# Altium footprint library SJ3-35024K-SMT.PcbLib: 1 footprints
Each footprint in its own frame and in the unit in brackets; x right, y up, seen from the top. Pads: shape width x height; smd on the part's side, far side on the other; paste and mask are expansions set on the pad; w line width, h text height; cw(c..) or ccw(c..) is an arc to the next point about the centre after c.
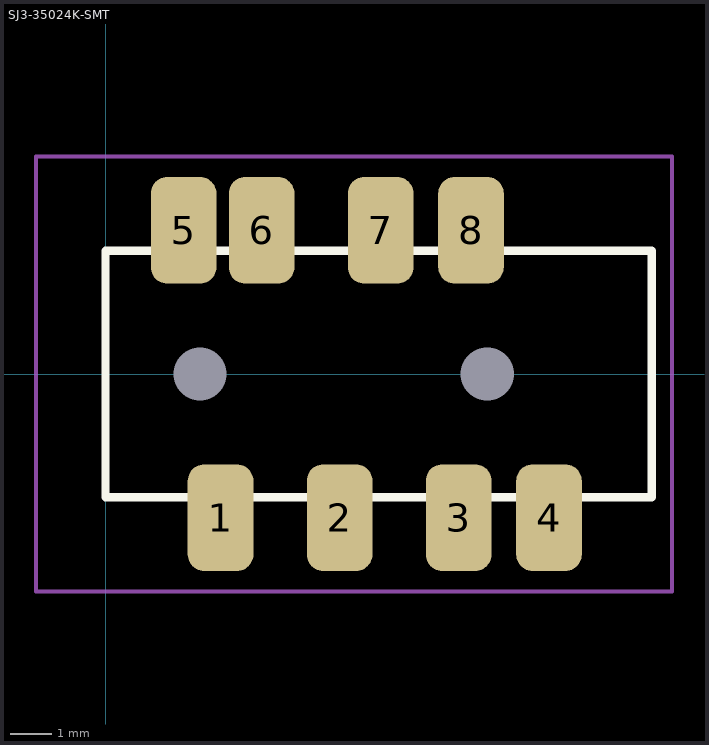
[diagram p0: the footprint, top view; thin cyan lines are the x and y axes]

## SJ3-35024K-SMT [mm]
pads (10):
  rrect50% 1.6x2.6 smd: 1(2.8,-3.5) 2(5.7,-3.5) 3(8.6,-3.5) 4(10.8,-3.5) 5(1.9,3.5) 6(3.8,3.5) 7(6.7,3.5) 8(8.9,3.5)
  round 0.5 hole 1.3 unplated: ""(2.3,0) ""(9.3,0)
Top Overlay:
  lines w0.2: 0,-3 0,3 13.3,3 13.3,-3 0,-3
Top Courtyard:
  lines w0.1: -1.7,-5.3 -1.7,5.3 13.8,5.3 13.8,-5.3 2.825,-5.3 -1.7,-5.3
3D body "Same_Sky_SJ3-35024K-SMT-TR.step": height 5.45, standoff -0.48, extent -1.2,-4.2 13.3,4.2